# EAGLE library part SC283 (library LoRa Gateway)
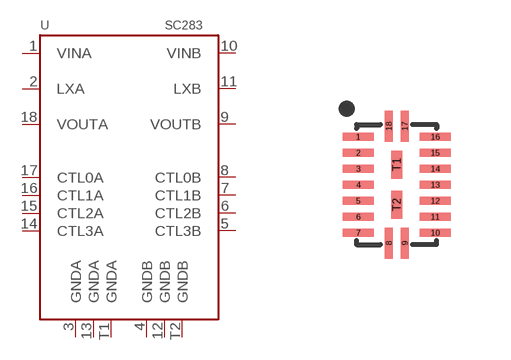
[diagram p1: symbol with the pads of 2X3MLPQ-W18; footprint 2X3MLPQ-W18]

Designator prefix U

## SC283  [2X3MLPQ-W18]
1  VINA
2  LXA
3  GNDA
4  GNDB
5  CTL3B
6  CTL2B
7  CTL1B
8  CTL0B
9  VOUTB
10  VINB
11  LXB
12  GNDB
13  GNDA
14  CTL3A
15  CTL2A
16  CTL1A
17  CTL0A
18  VOUTA
T1  GNDA
T2  GNDB

## Footprint 2X3MLPQ-W18 (pad centres in mm)
smd 0.775 x 0.2: 1 -0.963,1.2; 2 -0.963,0.8; 3 -0.963,0.4; 4 -0.963,0; 5 -0.963,-0.4; 6 -0.963,-0.8; 7 -0.963,-1.2; 10 0.963,-1.2; 11 0.963,-0.8; 12 0.963,-0.4; 13 0.963,0; 14 0.963,0.4; 15 0.963,0.8; 16 0.963,1.2
smd 0.2 x 0.775: 8 -0.2,-1.462; 9 0.2,-1.462; 17 0.2,1.462; 18 -0.2,1.462
smd 0.286 x 0.7: T1 0,0.5; T2 0,-0.5